# EAGLE library part RFM12 (library 1_Robo-Lib)
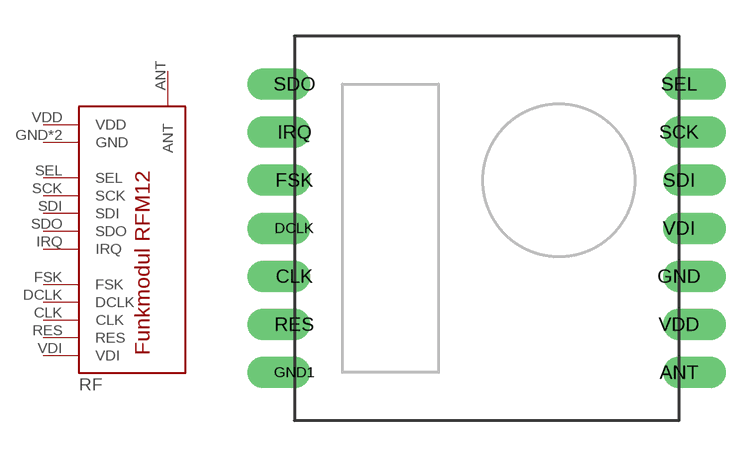
[diagram p16: symbol with the pads of RFM12BS; footprint RFM12BS]

Designator prefix RF

## RFM12BS  [RFM12BS]
ANT  ANT  pas
CLK  CLK  pas
DCLK  DCLK  pas
FSK  FSK
GND  GND  pwr
GND1  GND  pwr
IRQ  IRQ
RES  RES  pas
SCK  SCK
SDI  SDI
SDO  SDO
SEL  SEL
VDD  VDD  pwr
VDI  VDI  pas

## Footprint RFM12BS (pad centres in mm)
Funkmodul RFM12BS
drill 0.8 offset: ANT 8,-6; CLK -8,-2; DCLK -8,0; FSK -8,2; GND 8,-2; GND1 -8,-6; IRQ -8,4; RES -8,-4; SCK 8,4; SDI 8,2; SDO -8,6; SEL 8,6; VDD 8,-4; VDI 8,0